# EAGLE library part 693120025011 (library WR-CRD)
WR-CRD Compact Flash Card Connector Header Reverse type 50 pins Kind Properties Quality Class 10000 Mating cycles Gender Socket Type Header General Information Operating Temperature -25 up to +85 °C;​ Compliance RoHS Material Properties Insulator Material LCP Insulator Flammability Rating UL94 V-0 Color White Contact Material Copper Alloy Contact Plating Selective Gold Contact Type Stamped Shielding Material：Copper Alloy Electrical Properties IR 1：0.5A Working Voltage 100V (AC) Withstanding Voltage 500 V (AC) Contact Resistance 40 mΩ <https://www.we-online.com/components/media/o33061v209%20Family_WR-CRD_Compact%20Flash%20Card%20Kartensockel_invertiert_693120025011.jpg> Details see: www.we-online.com/en/components/products/CRD_COMPACT_FLASH_HEADER_REVERSE_TYPE_50_PINS Created by Ella Wu 2019-11-25 2019(C) Wurth Elektronik
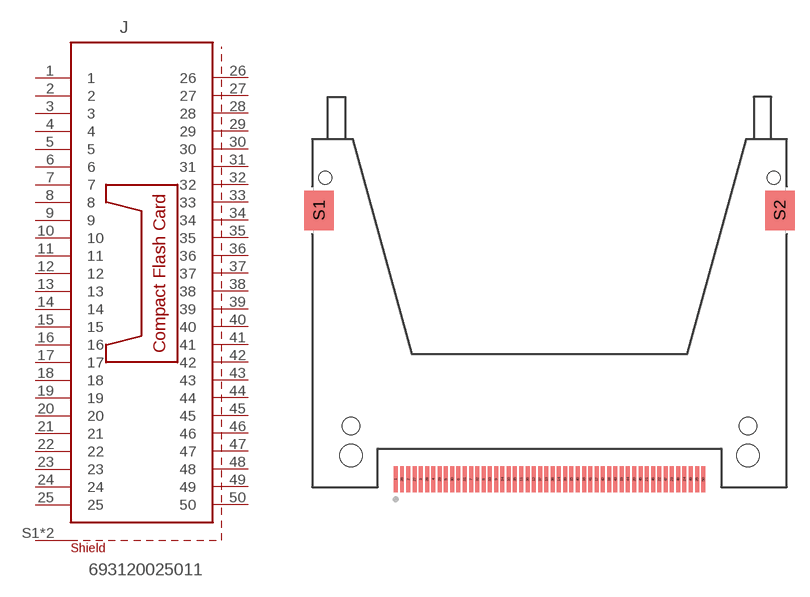
[diagram p3: symbol with the pads of 693120025011; footprint 693120025011]

Designator prefix J

## 693120025011 (DATASHEET-URL: https://www.we-online.com/redexpert/spec/693120025011?ae; GERDER: Socket; IR: 0.5A; MOUNT: SMT; PART-NUMBER: 693120025011; PINS: 50; TYPE: Header; VALUE: 693120025011; WORKING-VOLTAGE: 100V(AC))  [693120025011]
1  1  pwr
2  2
3  3
4  4
5  5
6  6
7  7
8  8
9  9
10  10
11  11
12  12
13  13  pwr
14  14
15  15
16  16
17  17
18  18
19  19
20  20
21  21
22  22
23  23
24  24
25  25
26  26
27  27
28  28
29  29
30  30
31  31
32  32
33  33
34  34
35  35
36  36
37  37
38  38  pwr
39  39
40  40
41  41
42  42
43  43
44  44
45  45
46  46
47  47
48  48
49  49
50  50  pwr
S1  SHIELD
S2  SHIELD

## Footprint 693120025011 (pad centres in mm)
WR-CRD Compact Flash Card Connector Header Reverse type 50 pins
smd 0.4 x 2.6: 1 -15.557,-16.2; 2 -14.287,-16.2; 3 -13.018,-16.2; 4 -11.748,-16.2; 5 -10.477,-16.2; 6 -9.207,-16.2; 7 -7.938,-16.2; 8 -6.668,-16.2; 9 -5.397,-16.2; 10 -4.128,-16.2; 11 -2.857,-16.2; 12 -1.587,-16.2; 13 -0.318,-16.2; 14 0.953,-16.2; 15 2.223,-16.2; 16 3.493,-16.2; 17 4.763,-16.2; 18 6.032,-16.2; 19 7.303,-16.2; 20 8.572,-16.2; 21 9.842,-16.2; 22 11.113,-16.2; 23 12.383,-16.2; 24 13.652,-16.2; 25 14.922,-16.2; 26 -14.922,-16.2; 27 -13.652,-16.2; 28 -12.383,-16.2; 29 -11.113,-16.2; 30 -9.842,-16.2; 31 -8.572,-16.2; 32 -7.303,-16.2; 33 -6.032,-16.2; 34 -4.763,-16.2; 35 -3.493,-16.2; 36 -2.223,-16.2; 37 -0.953,-16.2; 38 0.318,-16.2; 39 1.587,-16.2; 40 2.857,-16.2; 41 4.128,-16.2; 42 5.397,-16.2; 43 6.668,-16.2; 44 7.938,-16.2; 45 9.207,-16.2; 46 10.477,-16.2; 47 11.748,-16.2; 48 13.018,-16.2; 49 14.287,-16.2; 50 15.557,-16.2
smd 3 x 4: S1 -23.3,11; S2 23.3,11
hole 2.3 at -20.08,-13.8
hole 2.3 at 20.08,-13.8
hole 1.8 at 20.08,-10.8
hole 1.8 at -20.08,-10.8
hole 1.3 at 22.7,14.3
hole 1.3 at -22.7,14.3